# Altium schematic symbol library Inductor.SchLib: 3 symbols
Pins are listed as number, name and electrical type; pins without a type are passive.

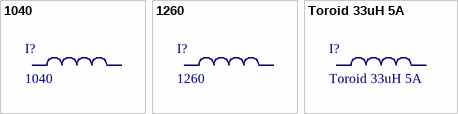
[diagram p0: symbols 1040 to Toroid 33uH 5A]

## 1040
designator I?
Generic Encapsulated Inductor 1040.
footprint 1040
pins: 1, 2

## 1260
designator I?
Generic Encapsulated Inductor 1260.
footprint 1260
pins: 1, 2

## Toroid 33uH 5A
designator I?
Toroid 33uH 5A 14x6mm Pitch 5mm.
footprint Toroid_33uH_5A (Toroid 14mmx6mm Pitch 5mm)
pins: 1, 2